# EAGLE library part LM7000 (library ic)
Direct PLL Frequency Synthesizer for Electronic Tuning http://pdf1.alldatasheet.com/datasheet-pdf/view/41207/SANYO/LM7000/+313Q8UOYLXObMPCABt+/datasheet.pdf
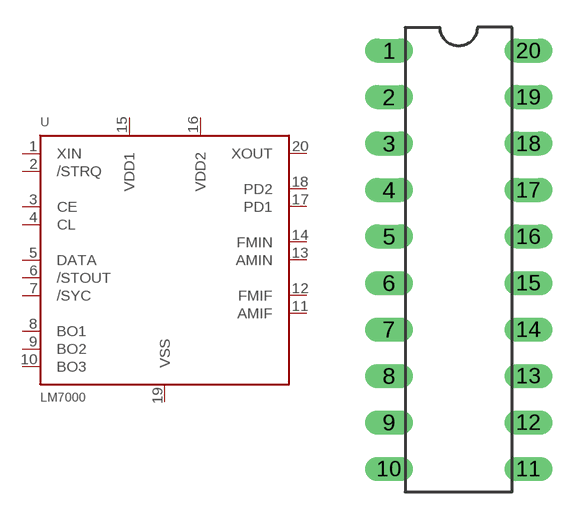
[diagram p31: symbol with the pads of DIL20; footprint DIL20]

Designator prefix -

## LM7000  [DIL20]
1  XIN
2  /STRQ
3  CE
4  CL
5  DATA
6  /STOUT
7  /SYC
8  BO1
9  BO2
10  BO3
11  AMIF
12  FMIF
13  AMIN
14  FMIN
15  VDD1  pwr
16  VDD2  pwr
17  PD1
18  PD2
19  VSS  pwr
20  XOUT

## Footprint DIL20 (pad centres in mm)
drill 0.8 long: 1 -3.81,11.43; 2 -3.81,8.89; 3 -3.81,6.35; 4 -3.81,3.81; 5 -3.81,1.27; 6 -3.81,-1.27; 7 -3.81,-3.81; 8 -3.81,-6.35; 9 -3.81,-8.89; 10 -3.81,-11.43; 11 3.81,-11.43; 12 3.81,-8.89; 13 3.81,-6.35; 14 3.81,-3.81; 15 3.81,-1.27; 16 3.81,1.27; 17 3.81,3.81; 18 3.81,6.35; 19 3.81,8.89; 20 3.81,11.43